# Altium schematic symbol library ABS07-32.768KHZ-T.SchLib: 1 symbol
Pins are listed as number, name and electrical type; pins without a type are passive.

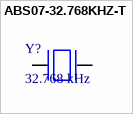
[diagram p0: symbol ABS07-32.768KHZ-T]

## ABS07-32.768KHZ-T
designator Y?, comment 32.768 kHz
32.768 kHz Â±20ppm Crystal 12.5pF 70 kOhms 2-SMD, No Lead; MP: ABS07-32.768KHZ-T; MF: Abracon; Availability: In Stock; SnapEDA_Link: https://www.snapeda.com/parts/ABS07-32.768KHZ-T/Abracon+LLC/view-part/?ref=snap; Price: None; Value: *; Check_prices: https://www.snapeda.com/parts/ABS07-32.768KHZ-T/Abracon+LLC/view-part/?ref=eda; Purchase-URL: https://pricing.snapeda.com/search/part/ABS07-32.768KHZ-T/?ref=eda; Package: SMD-2 Abracon LLC
footprint XTAL_ABS07-32.768KHZ-T
pins: 1, 2